# Altium footprint library 2019-05-21_17-42-16.PcbLib: 1 footprints
Each footprint in its own frame and in the unit in brackets; x right, y up, seen from the top. Pads: shape width x height; smd on the part's side, far side on the other; paste and mask are expansions set on the pad; w line width, h text height; cw(c..) or ccw(c..) is an arc to the next point about the centre after c.
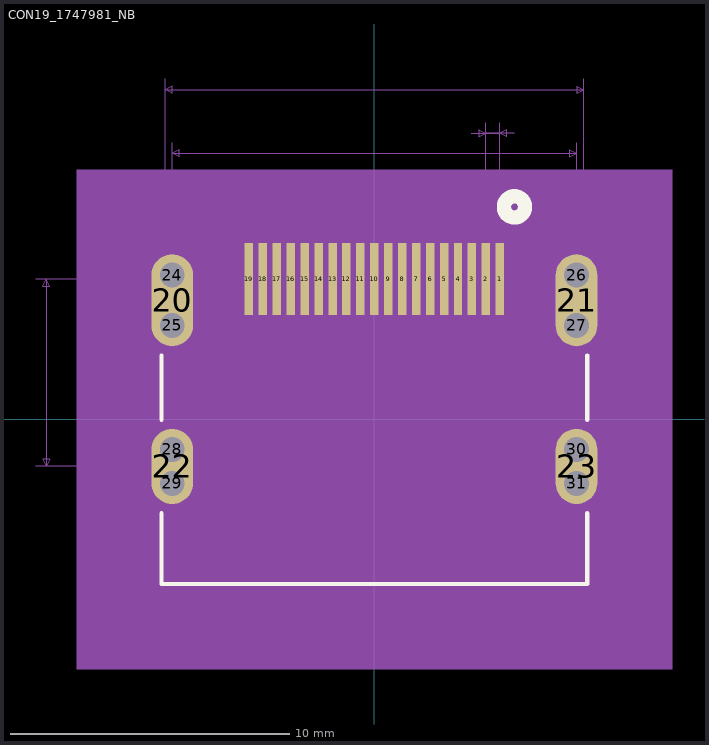
[diagram p0: the footprint, top view; thin cyan lines are the x and y axes]

## CON19_1747981_NB [mil]
pads (31):
  rect 12x102 smd paste+0 mask+0: 1(177.17,198.11) 2(157.48,198.11) 3(137.8,198.11) 4(118.11,198.11) 5(98.43,198.11) 6(78.74,198.11) 7(59.06,198.11) 8(39.37,198.11) 9(19.68,198.11) 10(0,198.11) 11(-19.68,198.11) 12(-39.37,198.11) 13(-59.06,198.11) 14(-78.74,198.11) 15(-98.43,198.11) 16(-118.11,198.11) 17(-137.8,198.11) 18(-157.48,198.11) 19(-177.17,198.11)
  oval 59x130 smd: 20(-285.43,168.19) 21(285.43,168.19)
  oval 59x106 smd: 22(-285.43,-66.46) 23(285.43,-66.46)
  round 35 hole 35: 24(-285.43,203.69) 25(-285.43,132.69) 26(285.43,203.69) 27(285.43,132.69) 28(-285.43,-42.46) 29(-285.43,-90.46) 30(285.43,-42.46) 31(285.43,-90.46)
Top Overlay:
  circle w20: c197.83,300 r15
  lines w6: -300.5,-132.56 -300.5,-232.5 300.5,-232.5 300.5,-132.56 ; -300.5,-0.36 -300.5,90.09 ; 300.5,-0.36 300.5,90.09
  lines w20: 184.39,306.64 cw(c197.83,300) 212.83,300 cw(c197.83,300) 207.29,288.35
Mechanical 5:
  region: -420.5,352.5 420.5,352.5 420.5,-352.5 -420.5,-352.5
Mechanical 7:
  lines w1: -477.94,-66.46 -177.17,-66.46 ; -477.94,198.11 -177.17,198.11 ; -376.11,-66.46 -285.43,-66.46 ; -376.11,168.19 -285.43,168.19 -285.43,390.77 ; -295.5,227.5 -295.5,480.62 ; 137.16,404.01 177.16,404.01 ; 157.48,198.11 157.48,419.01 ; 177.17,198.11 177.16,419.01 ; 197.48,404.01 157.48,404.01 ; 285.43,168.19 285.43,390.77 ; 295.5,-227.5 393.23,-227.5 ; 295.5,480.62 295.5,227.5 393.23,227.5 ; -462.94,-66.46 -462.94,198.11 ; -462.94,-66.46 -467.94,-56.46 -457.94,-56.46 -462.94,-66.46 ; -462.94,198.11 -457.94,188.11 -467.94,188.11 -462.94,198.11 ; -361.11,-66.46 -361.11,168.19 ; -361.11,-66.46 -366.11,-56.46 -356.11,-56.46 -361.11,-66.46 ; -361.11,168.19 -356.11,158.19 -366.11,158.19 -361.11,168.19 ; -295.5,465.62 295.5,465.62 ; -295.5,465.62 -285.5,470.62 -285.5,460.62 -295.5,465.62 ; -285.43,375.77 285.43,375.77 ; -285.43,375.77 -275.43,380.77 -275.43,370.77 -285.43,375.77 ; 157.48,404.01 147.48,399.01 147.48,409.01 157.48,404.01 ; 177.16,404.01 187.16,409.01 187.16,399.01 177.16,404.01 ; 285.43,375.77 275.43,370.77 275.43,380.77 285.43,375.77 ; 295.5,465.62 285.5,460.62 285.5,470.62 295.5,465.62 ; 378.23,-227.5 378.23,227.5 ; 378.23,-227.5 373.23,-217.5 383.23,-217.5 378.23,-227.5 ; 378.23,227.5 383.23,217.5 373.23,217.5 378.23,227.5
  text "Default Padstyle: RX12Y102D0T" at -362.5,-377.5 h50
  text "1st Mtg Padstyle: RX59Y130D0T" at -362.5,-452.5 h50
  text "2nd Mtg Padstyle: RX59Y106D0T" at -362.5,-527.5 h50
  text "3rd Mtg Padstyle: EX70Y70D70P" at -362.5,-602.5 h50
  text "Left Mtg Padstyle: EX60Y60D30P" at -375,-677.5 h50
  text "Right Mtg Padstyle: EX60Y60D30P" at -387.5,-752.5 h50
  text "Alt Padstyle 1: OX60Y90D30P" at -337.5,-827.5 h50
  text "Alt Padstyle 2: OX90Y60D30P" at -337.5,-902.5 h50
  text "0.591in/15.011mm" at -100,485.62 h25
  text "0.02in/0.5mm" at 92.32,424.01 h25
  text "0.571in/14.5mm" at -87.5,395.77 h25
  text "0.235in/5.96mm" at -556.11,38.37 h25
  text "0.265in/6.72mm" at -657.94,53.33 h25
  text "0.455in/11.557mm" at 398.23,-12.5 h25
Mechanical 13:
  circle w20: c197.83,125 r15
  lines w1: -295.5,-227.5 295.5,-227.5 295.5,227.5 -295.5,227.5 -295.5,-227.5
Mechanical 15:
  region: 325,260 -325,260 -325,-237.5 325,-237.5
  region: 295.5,227.5 -295.5,227.5 -295.5,-227.5 295.5,-227.5
  lines w6: -325,-237.5 -325,260 325,260 325,-237.5 -325,-237.5
Multi-Layer:
  lines w3: -302.93,-90.46 -302.93,-42.46 ; -302.93,132.69 -302.93,203.69 ; -267.93,-90.46 -267.93,-42.46 ; -267.93,132.69 -267.93,203.69 ; 267.93,-90.46 267.93,-42.46 ; 267.93,132.69 267.93,203.69 ; 302.93,-90.46 302.93,-42.46 ; 302.93,132.69 302.93,203.69
3D body: height 10, standoff 0, extent 0,0 10,10